# Altium footprint library special.PcbLib: 20 footprints (part 2 of 2)
Each footprint in its own frame and in the unit in brackets; x right, y up, seen from the top. Pads: shape width x height; smd on the part's side, far side on the other; paste and mask are expansions set on the pad; w line width, h text height; cw(c..) or ccw(c..) is an arc to the next point about the centre after c.
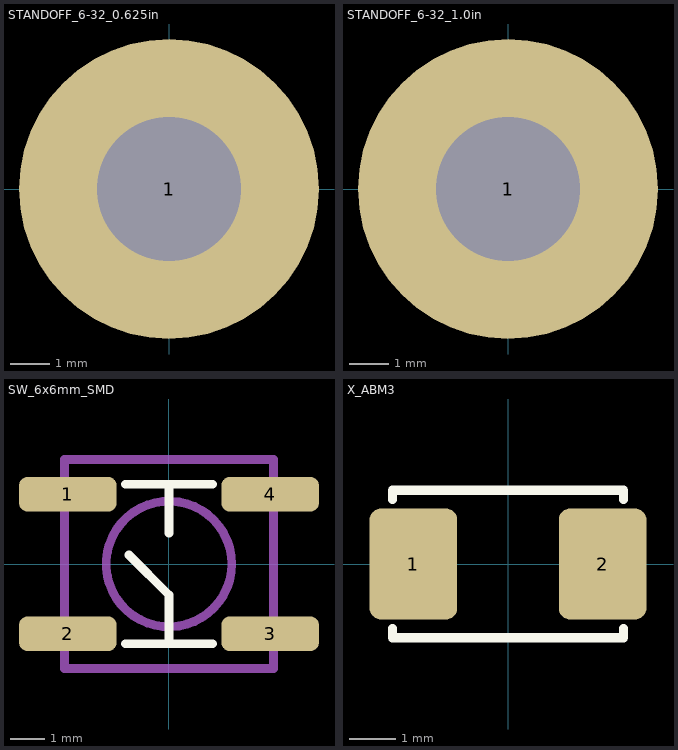
[diagram p1: the footprints below, top view; thin cyan lines are the x and y axes]

## STANDOFF_6-32_0.625in [mil] "Standoff for 6-32 screw, 0.625 inches tall"
height 625
pads (1):
  round 300 hole 144 paste+0: 1(0,0)
3D body "91274A008_COATED ALLOY STEEL SOCKET HEAD CAP SCREW.STEP": height 138.5, standoff -374.5, extent -112.99,-112.99 113.01,113
3D body "91780A129_ALUM FEM THRDED HEX STANDOFF.STEP": height 625.5, standoff 0.5, extent -124.99,-144.33 125.01,144.34

## STANDOFF_6-32_1.0in [mil] "Standoff for 6-32 screw, 1.0 inches tall"
height 1000
pads (1):
  round 300 hole 144 paste+0: 1(0,0)
3D body "91274A008_COATED ALLOY STEEL SOCKET HEAD CAP SCREW.STEP": height 138.5, standoff -374.5, extent -112.99,-112.99 113.01,113
3D body "91780A133_ALUM FEM THRDED HEX STANDOFF.STEP": height 1000.5, standoff 0.5, extent -124.99,-144.33 125.01,144.34

## SW_6x6mm_SMD [mm]
pads (4):
  rrect50% 2.8x1 smd: 1(-2.9,2) 2(-2.9,-2) 3(2.9,-2) 4(2.9,2)
Top Overlay:
  lines w0.254: -1.25,-2.285 1.25,-2.285 ; -1.25,2.287 1.25,2.287 ; -1.144,0.255 -0.001,-0.888 -0.001,-2.285 ; -0.001,0.89 -0.001,2.287
Mechanical 13:
  circle w0.254: c-0.001,0.001 r1.8
  lines w0.254: -3.001,-2.999 2.999,-2.999 2.999,3.001 -3.001,3.001 -3.001,-2.999
3D body "User Library-KSC241J.STEP": height 3.48, standoff -0.02, extent -3.4,-3.1 3.4,3.1

## X_ABM3 [mm] "ABM3  Ceramic Crystal"
height 1.3
pads (2):
  rrect25% 1.9x2.4 smd: 1(-2.05,0) 2(2.05,0)
Top Overlay:
  lines w0.2: -2.5,-1.4 -2.5,-1.6 2.5,-1.6 2.5,-1.4 ; -2.5,1.4 -2.5,1.6 2.5,1.6 2.5,1.4
3D body "ABM3.STEP": height 1.32, standoff 0.01, extent -2.5,-1.6 2.5,1.6